# Altium schematic symbol library TPS53313.SchLib: 2 symbols
Pins are listed as number, name and electrical type; pins without a type are passive.

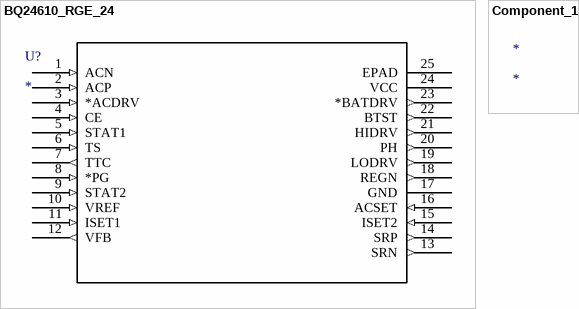
[diagram p0: symbols BQ24610_RGE_24 to Component_1]

## BQ24610_RGE_24
designator U?
Imported; Manufacturer: Texas Instruments; GENERIC_PART_NUMBER: BQ24610; INDUSTRY_STD_PKG_TYPE: VQFN; FAMILY_NAME: BATTERY CHARGE MANAGEMENT; PIN_COUNT: 24; PACKAGE_DESIGNATOR: RGE; Datasheet URL: http://www.ti.com/lit/gpn/BQ24610; RefDes: RefDes; Type: DEV; Value: Value
footprint RGE24_2P45X2P45
pins: 1 ACN (in), 2 ACP (in), 3 *ACDRV (in), 4 CE (in), 5 STAT1 (in), 6 TS (in), 7 TTC (out), 8 *PG (in), 9 STAT2 (in), 10 VREF (in), 11 ISET1 (in), 12 VFB (out), 13 SRN (out), 14 SRP (out), 15 ISET2 (in), 16 ACSET (in), 17 GND (power), 18 REGN (out), 19 LODRV (out), 20 PH (out), 21 HIDRV (out), 22 BTST (out), 23 *BATDRV (out), 24 VCC (power), 25 EPAD (power)

## Component_1
designator *